# Altium schematic symbol library PicoBlade 10 pin.SchLib: 1 symbol
Pins are listed as number, name and electrical type; pins without a type are passive.

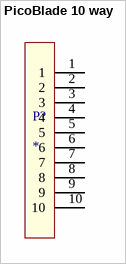
[diagram p0: symbol PicoBlade 10 way]

## PicoBlade 10 way
designator P?
footprint P? (PicoBlade connector RA 10 way)
pins: 1, 2, 3, 4, 5, 6, 7, 8, 9, 10